# Altium schematic symbol library AP7375.SchLib: 1 symbol
Pins are listed as number, name and electrical type; pins without a type are passive.

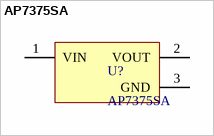
[diagram p0: symbol AP7375SA]

## AP7375SA
designator U?
pins: 1 VIN (power), 2 VOUT (power), 3 GND (power)